# Altium footprint library QUTMS_IsolatorLibrary.PcbLib: 1 footprints
Each footprint in its own frame and in the unit in brackets; x right, y up, seen from the top. Pads: shape width x height; smd on the part's side, far side on the other; paste and mask are expansions set on the pad; w line width, h text height; cw(c..) or ccw(c..) is an arc to the next point about the centre after c.
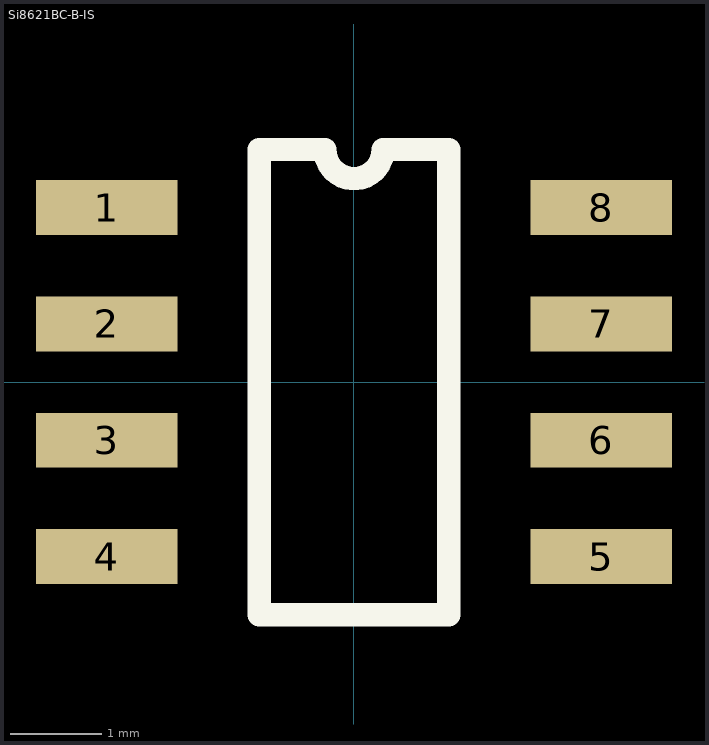
[diagram p0: the footprint, top view; thin cyan lines are the x and y axes]

## Si8621BC-B-IS [mm]
pads (8):
  rect 1.55x0.6 smd: 1(-2.7,1.905) 2(-2.7,0.635) 3(-2.7,-0.635) 4(-2.7,-1.905) 5(2.7,-1.905) 6(2.7,-0.635) 7(2.7,0.635) 8(2.7,1.905)
Top Overlay:
  lines w0.254: -1.036,-2.54 -1.036,2.54 -0.317,2.54 ccw(c0,2.54) 0.318,2.54 1.036,2.54 1.036,-2.54 -1.036,-2.54
3D body "D0008A.stp": height 1.63, standoff 0, extent -3.011,-2.449 3.012,2.453